# Altium schematic symbol library IC_Transceivers.SchLib: 4 symbols
Pins are listed as number, name and electrical type; pins without a type are passive.

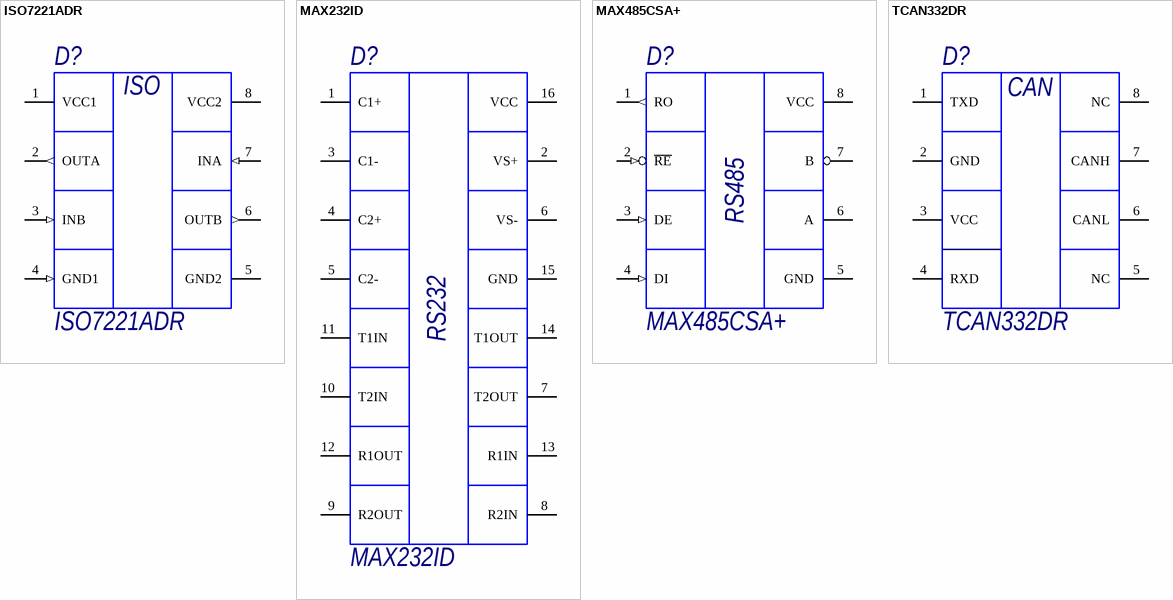
[diagram p0: symbols ISO7221ADR to TCAN332DR]

## ISO7221ADR
designator D?
Микросхема изолятор цифровых сигналов; ComponentDescription: =ComponentType+', '+Comment+', '+Package; ComponentType: Микросхема изолятор цифровых сигналов
footprint 8-SOIC (SOIC, 8-Leads, Body 4,90x3,90mm, Pitch 1,27mm, IPC Medium Density)
pins: 1 VCC1 (power), 2 OUTA (out), 3 INB (in), 4 GND1 (in), 5 GND2 (power), 6 OUTB (out), 7 INA (in), 8 VCC2 (power)
text: ISO

## MAX232ID
designator D?
Микросхема интерфейса; ComponentDescription: =ComponentType+', '+Comment+', '+Package; ComponentType: Микросхема интерфейса
footprint 16-SOIC (SOIC, 16-Leads, Body 9,90x3,90mm, Pitch 1,27mm, IPC Medium Density)
pins: 1 С1+ (power), 2 VS+ (power), 3 С1- (power), 4 С2+ (power), 5 С2- (power), 6 VS- (power), 7 T2OUT (power), 8 R2IN (power), 9 R2OUT (power), 10 T2IN (power), 11 T1IN (power), 12 R1OUT (power), 13 R1IN (power), 14 T1OUT (power), 15 GND (power), 16 VCC (power)
text: RS232

## MAX485CSA+
designator D?
Микросхема интерфейса; Manufacturer: Maxim; Data Rate: 2.5Mbps; Min Supply Voltage: 4.75V; Max Supply Voltage: 5.25V; Operating Supply Voltage: 5V; Logic Function: Transceiver; Nominal Supply Current: 500uA; Number of Transmitters: 1; Interface: RS-422; Simplex/Duplex: Half Duplex; ComponentDescription: =ComponentType+', '+Comment+', '+Package; ComponentType: Микросхема интерфейса; Supplier 1: Digi-Key; Manufacturer Part Number: MAX485CSA+; RoHS: Yes; Category: Interface ICs; Stock 1: 1660; Pricing 1: 1=3,93000, 10=3,53200, 25=3,33920, 100=2,74540, 250=2,46344, 500=2,37440, 1000=1,97372, 2500=1,89952, 5000=1,89000 (USD); Mount: Surface Mount; Case/Package: SOIC; Number of Pins: 8; Contact Plating: Tin,Matte; Weight: 0.01787oz; Min Operating Temperature: 0°C; Max Operating Temperature: 70°C; Packaging: Rail/Tube; Package Quantity: 100; Series: -; Number of Receivers: 1; Number of Drivers: 1; Number of Transceivers: 1; Operating Supply Current: 500uA; Voltage: 5V; Length: 5mm; Width: 4mm; Height: 1.5mm; Radiation Hardening: No; RoHS Compliant: Yes; Lead Free: Lead Free; REACH SVHC: No SVHC; ComponentLink1URL: https://datasheet.ciiva.com/29306/170071-da-01-en-ic-max485csa-so8-29306144.pdf?src-supplier=Conrad; ComponentLink1Description: https://datasheet.ciiva.com/29306/170071-da-01-en-ic-max485csa-so8-29306144.pdf?src-supplier=Conrad; ComponentLink2URL: https://datasheet.ciiva.com/16640/max1487-max491-16640602.pdf?src-supplier=Avnet+Europe; ComponentLink2Description: https://datasheet.ciiva.com/16640/max1487-max491-16640602.pdf?src-supplier=Avnet+Europe; ComponentLink3URL: https://datasheet.ciiva.com/3028/max1487-max491-3028651.pdf?src-supplier=Avnet; ComponentLink3Description: https://datasheet.ciiva.com/3028/max1487-max491-3028651.pdf?src-supplier=Avnet; ComponentLink4URL: https://datasheet.ciiva.com/14152/jwmax481-491-data-e-14152715.pdf?src-supplier=Distrelec; ComponentLink4Description: https://datasheet.ciiva.com/14152/jwmax481-491-data-e-14152715.pdf?src-supplier=Distrelec; ComponentLink5URL: https://datasheet.ciiva.com/1712/max1487-max491-1712621.pdf?src-supplier=Digi-Key; ComponentLink5Description: https://datasheet.ciiva.com/1712/max1487-max491-1712621.pdf?src-supplier=Digi-Key; Supplier Part Number 1: MAX485CSA+-ND
footprint 8-SOIC (SOIC, 8-Leads, Body 4,90x3,90mm, Pitch 1,27mm, IPC Medium Density)
pins: 1 RO (out), 2 ~{RE} (in), 3 DE (in), 4 DI (in), 5 GND (power), 6 A, 7 B, 8 VCC (power)
text: RS485

## TCAN332DR
designator D?
Микросхема интерфейса; Manufacturer: Texas Instruments; Receiver Hysteresis: 120mV; Data Rate: 1Mbps; Min Supply Voltage: 3V; Max Supply Voltage: 3.6V; Number of Transmit Buffers: 1; ComponentDescription: =ComponentType+', '+Comment+', '+Package; ComponentType: Микросхема интерфейса; Supplier 1: Digi-Key; Manufacturer Part Number: TCAN332DR; RoHS: Yes; Category: Interface ICs; Stock 1: 5652; Pricing 1: 1=2,13000, 10=1,91000, 25=1,80200, 100=1,44160, 250=1,26140, 500=1,22536, 1000=0,97308 (USD); Mount: Surface Mount; Case/Package: SOIC; Number of Pins: 8; Min Operating Temperature: -40°C; Max Operating Temperature: 125°C; Packaging: Cut Tape; Number of Receive Buffers: 1; Lead Free: Lead Free; RoHS Compliant: Yes; REACH SVHC: No SVHC; ComponentLink1URL: http://www.ti.com/lit/gpn/tcan332?src-supplier=Mouser; ComponentLink1Description: http://www.ti.com/lit/gpn/tcan332?src-supplier=Mouser; ComponentLink2URL: http://www.ti.com/lit/ds/symlink/tcan332.pdf?src-supplier=Digi-Key; ComponentLink2Description: http://www.ti.com/lit/ds/symlink/tcan332.pdf?src-supplier=Digi-Key; ComponentLink3URL: http://www.ti.com/general/docs/lit/getliterature.tsp?genericPartNumber=TCAN332&amp;&amp;fileType=pdf&src-supplier=Farnell; ComponentLink3Description: http://www.ti.com/general/docs/lit/getliterature.tsp?genericPartNumber=TCAN332&amp;&amp;fileType=pdf&src-supplier=Farnell; ComponentLink4URL: http://www.ti.com/general/docs/lit/getliterature.tsp?genericPartNumber=TCAN332&&fileType=pdf&src-supplier=Element14; ComponentLink4Description: http://www.ti.com/general/docs/lit/getliterature.tsp?genericPartNumber=TCAN332&&fileType=pdf&src-supplier=Element14; Supplier Part Number 1: 296-43711-1-ND
footprint 8-SOIC (SOIC, 8-Leads, Body 4,90x3,90mm, Pitch 1,27mm, IPC Medium Density)
pins: 1 TXD, 2 GND, 3 VCC, 4 RXD, 5 NC, 6 CANL, 7 CANH, 8 NC
text: CAN